# Altium schematic symbol library MOSFET SMD.SchLib: 17 symbols
Pins are listed as number, name and electrical type; pins without a type are passive.

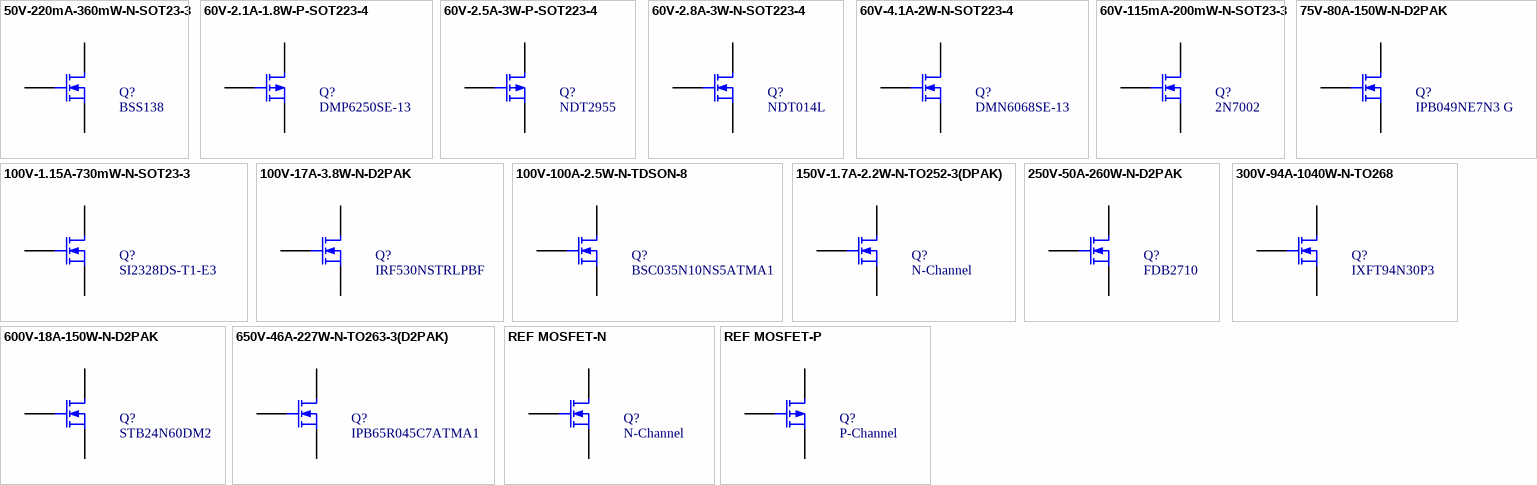
[diagram p0: symbols 50V-220mA-360mW-N-SOT23-3 to REF MOSFET-P]

## 50V-220mA-360mW-N-SOT23-3
designator Q?, comment BSS138
N-CH, 50V Voltage Rating, 220mA Current Rating, 360mW Power Rating, SOT23-3 Package; Manfacturer: ON Semiconductor; Material: METAL OXIDE; InventoryNumber: MOS034; Type: N-Channel; DistributorName: Digikey; DistributorReference: BSS138CT-ND; ManufacturerReference: BSS138; VoltageRating: 50V; CurrentRating: 220mA; Package: SOT23-3; PowerRating: 360mW
footprint SOT23-3    ON Semiconductor (SOT23, 3-Leads, Body 2.92x2.55mm, Pitch 0.95mm, IPC High Density)
pins: 1 G, 2 D, 3 S

## 60V-2.1A-1.8W-P-SOT223-4
designator Q?, comment DMP6250SE-13
P-CH, 60V Volatge Rating, 2.1A Current Rating, 1.8W Power Rating, SOT223-4 Package; Manufacturer: Diodes Incorporated; Material: METAL OXIDE; InventoryNumber: MOS048; Type: P-Channel; DistributorName: Digikey; DistributorReference: DMP6250SE-13DICT-ND; ManufacturerReference: DMP6250SE-13; VoltageRating: 60V; CurrentRating: 2.1A; PowerRating: 1.8W; Package: SOT223-4
footprint SOT223-4 (SOT223, 4-Leads, Body 6.50x7.00mm (avg), Pitch 2.30mm, IPC High Density)
pins: 1 D, 2 G, 3 S

## 60V-2.5A-3W-P-SOT223-4
designator Q?, comment NDT2955
P-CH, 60V Volatge Rating, 2.5A Current Rating, 3W Power Rating, SOT223-4 Package; Manufacturer: ON Semiconductor; Material: METAL OXIDE; InventoryNumber: MOS051; Type: P-Channel; DistributorName: Digikey; DistributorReference: NDT2955CT-ND; ManufacturerReference: NDT2955; VoltageRating: 60V; CurrentRating: 2.5A; PowerRating: 3W; Package: SOT223-4
footprint SOT223-4 (SOT223, 4-Leads, Body 6.50x7.00mm (avg), Pitch 2.30mm, IPC High Density)
pins: 1 D, 2 G, 3 S

## 60V-2.8A-3W-N-SOT223-4
designator Q?, comment NDT014L
N-CH, 60V Voltage Rating, 2.8A Current Rating, 3W Power Rating, SOT223-4 Package; Manfacturer: ON Semiconductor; Material: METAL OXIDE; Type: N-Channel; InventoryNumber: MOS001; DistributorName: Digikey; DistributorReference: NDT014LCT-ND; ManufacturerReference: NDT014L; VoltageRating: 60V; CurrentRating: 2.8A; Package: SOT223-4; PowerRating: 3W
footprint SOT223-4 (SOT223, 4-Leads, Body 6.50x7.00mm (avg), Pitch 2.30mm, IPC High Density)
pins: 1 G, 2 D, 3 S

## 60V-4.1A-2W-N-SOT223-4
designator Q?, comment DMN6068SE-13
N-CH, 60V Voltage Rating, 4.1A Current Rating, 2W Power Rating, SOT223-4 Package; Manfacturer: Diodes Incorporated; Material: METAL OXIDE; InventoryNumber: MOS002; Type: N-Channel; DistributorName: Digikey; DistributorReference: DMN6068SE-13CT-ND; ManufacturerReference: DMN6068SE-13; VoltageRating: 60V; CurrentRating: 4.1A; Package: SOT223-4; PowerRating: 2W
footprint SOT223-4 (SOT223, 4-Leads, Body 6.50x7.00mm (avg), Pitch 2.30mm, IPC High Density)
pins: 1 G, 2 D, 3 S

## 60V-115mA-200mW-N-SOT23-3
designator Q?, comment 2N7002
N-CH, 60V Voltage Rating, 115mA Current Rating, 200mW Power Rating, SOT23-3 Package; Manfacturer: ON Semiconductor; Material: METAL OXIDE; InventoryNumber: MOS036; Type: N-Channel; DistributorName: Digikey; DistributorReference: 2N7002NCT-ND; ManufacturerReference: 2N7002; VoltageRating: 60V; CurrentRating: 115mA; Package: SOT23-3(TO-236AB); PowerRating: 200mW
footprint SOT23-3    ON Semiconductor (SOT23, 3-Leads, Body 2.92x2.55mm, Pitch 0.95mm, IPC High Density)
pins: 1 G, 2 D, 3 S

## 75V-80A-150W-N-D2PAK
designator Q?, comment IPB049NE7N3 G
N-CH, 75V Voltage Rating, 80A Current Rating, 150W Power Rating, D2PAK Package; Manfacturer: Infineon Technologies; Material: METAL OXIDE; InventoryNumber: MOS003; Type: N-Channel; DistributorName: Digikey; DistributorReference: IPB049NE7N3 GCT-ND; ManufacturerReference: IPB049NE7N3 G; VoltageRating: 75V; CurrentRating: 80A; Package: TO263-3AB(D2PAK); PowerRating: 150W
footprint D2PAK (TO263-3)
pins: 1 G, 2 D, 3 S

## 100V-1.15A-730mW-N-SOT23-3
designator Q?, comment SI2328DS-T1-E3
N-CH, 100V Voltage Rating, 1.15A Current Rating, 730mW Power Rating, SOT23-3 Package; Manfacturer: Vishay Siliconix; Material: METAL OXIDE; InventoryNumber: MOS004; Type: N-Channel; DistributorName: Digikey; DistributorReference: SI2328DS-T1-E3CT-ND; ManufacturerReference: SI2328DS-T1-E3; VoltageRating: 100V; CurrentRating: 1.15A; Package: SOT23-3(TO236); PowerRating: 730mW
footprint SOT23-3    ON Semiconductor (SOT23, 3-Leads, Body 2.92x2.55mm, Pitch 0.95mm, IPC High Density)
pins: 1 G, 2 D, 3 S

## 100V-17A-3.8W-N-D2PAK
designator Q?, comment IRF530NSTRLPBF
N-CH, 100V Voltage Rating, 17A Current Rating, 3.8W Power Rating, D2PAK Package; Manfacturer: Infineon Technologies; Material: METAL OXIDE; InventoryNumber: MOS039; Type: N-Channel; DistributorName: Digikey; DistributorReference: IRF530NSTRLPBFCT-ND; ManufacturerReference: IRF530NSTRLPBF; VoltageRating: 100V; CurrentRating: 17A; Package: D2PAK; PowerRating: 3.8W
footprint D2PAK (TO263-3)
pins: 1 G, 2 D, 3 S

## 100V-100A-2.5W-N-TDSON-8
designator Q?, comment BSC035N10NS5ATMA1
N-CH, 100V Voltage Rating, 100A Current Rating, 2.5W Power Rating, TDSON-8 Package; Manfacturer: Infineon Technologies; Material: METAL OXIDE; InventoryNumber: MOS005; Type: N-Channel; DistributorName: Digikey; DistributorReference: BSC035N10NS5ATMA1CT-ND; ManufacturerReference: BSC035N10NS5ATMA1; VoltageRating: 100V; CurrentRating: 100A; Package: TDSON-8; PowerRating: 2.5W
footprint TDSON8 TDSON8 Infineon Technologies (SON, 8-Leads, Body 5.32x6.15mm, Pitch 1.27mm, IPC High Density)
pins: 1 G, 2 D, 3 S

## 150V-1.7A-2.2W-N-TO252-3(DPAK)
designator Q?, comment N-Channel
N-CH, 150V Voltage Rating, 1.7A Current Rating, 2.2W Power Rating, TO252-3(DPAK) Package; ManufacturerReference: ZXMN15A27KTC; Manfacturer: Diodes Incorporated; Material: METAL OXIDE; InventoryNumber: MOS042; DistributorName: Digikey; DistributorReference: ZXMN15A27KTCCT-ND; VoltageRating: 150V; CurrentRating: 1.7A; Package: TO252-3(DPAK); PowerRating: 2.2W; Type: N-Channel
footprint DPAK (TO252-3)
pins: 1 G, 2 D, 3 S

## 250V-50A-260W-N-D2PAK
designator Q?, comment FDB2710
N-CH, 250V Voltage Rating, 50A Current Rating, 260W Power Rating, D2PAK Package; Manfacturer: ON Semiconductor; Material: METAL OXIDE; InventoryNumber: MOS010; Type: N-Channel; DistributorName: Digikey; DistributorReference: FDB2710CT-ND; ManufacturerReference: FDB2710; VoltageRating: 250V; CurrentRating: 50A; Package: D2PAK; PowerRating: 260W
footprint D2PAK (TO263-3)
pins: 1 G, 2 D, 3 S

## 300V-94A-1040W-N-TO268
designator Q?, comment IXFT94N30P3
N-CH, 300V Voltage Rating, 94A Current Rating, 1040W Power Rating, TO268 Package; Manfacturer: IXYS; Material: METAL OXIDE; InventoryNumber: MOS014; Type: N-Channel; DistributorName: Digikey; DistributorReference: IXFT94N30P3-ND; ManufacturerReference: IXFT94N30P3; VoltageRating: 300V; CurrentRating: 94A; Package: TO268(D3PAK); PowerRating: 1040W
footprint TO268 (D3PAK)
pins: 1 G, 2 D, 3 S

## 600V-18A-150W-N-D2PAK
designator Q?, comment STB24N60DM2
N-CH, 600V Voltage Rating, 18A Current Rating, 150W Power Rating, D2PAK Package; Manfacturer: STMicroelectronics; Material: METAL OXIDE; InventoryNumber: MOS018; Type: N-Channel; DistributorName: Digikey; DistributorReference: 497-15423-1-ND; ManufacturerReference: STB24N60DM2; VoltageRating: 600V; CurrentRating: 18A; Package: D2PAK; PowerRating: 150W
footprint D2PAK (TO263-3)
pins: 1 G, 2 D, 3 S

## 650V-46A-227W-N-TO263-3(D2PAK)
designator Q?, comment IPB65R045C7ATMA1
N-CH, 650V Voltage Rating, 46A Current Rating, 227W Power Rating, TO263-3 Package; Manfacturer: Infineon Technologies; Material: METAL OXIDE; InventoryNumber: MOS024; Type: N-Channel; DistributorName: Digikey; DistributorReference: IPB65R045C7ATMA1CT-ND; ManufacturerReference: IPB65R045C7ATMA1; VoltageRating: 650V; CurrentRating: 46A; Package: TO263-3AB (D2PAK); PowerRating: 227W
footprint D2PAK (TO263-3)
pins: 1 G, 2 D, 3 S

## REF MOSFET-N
designator Q?, comment N-Channel
N-CH, Voltage Rating, Current Rating, Power Rating, Package; DistributorName: Digikey; DistributorReference: *; Manfacturer: *; ManufacturerReference: *; VoltageRating: *; CurrentRating: *; Package: *; PowerRating: *; Material: *; InventoryNumber: *; Type: *
pins: 1 G, 2 D, 3 S

## REF MOSFET-P
designator Q?, comment P-Channel
P-CH, Volatge Rating, Current Rating, Power Rating, Package; DistributorName: Digikey; DistributorReference: *; Manufacturer: *; ManufacturerReference: *; VoltageRating: *; CurrentRating: *; PowerRating: *; Material: *; Package: *; InventoryNumber: *; Type: *
pins: 1 D, 2 G, 3 S